# Altium footprint library semicon-th.PcbLib: 15 footprints
Each footprint in its own frame and in the unit in brackets; x right, y up, seen from the top. Pads: shape width x height; smd on the part's side, far side on the other; paste and mask are expansions set on the pad; w line width, h text height; cw(c..) or ccw(c..) is an arc to the next point about the centre after c.
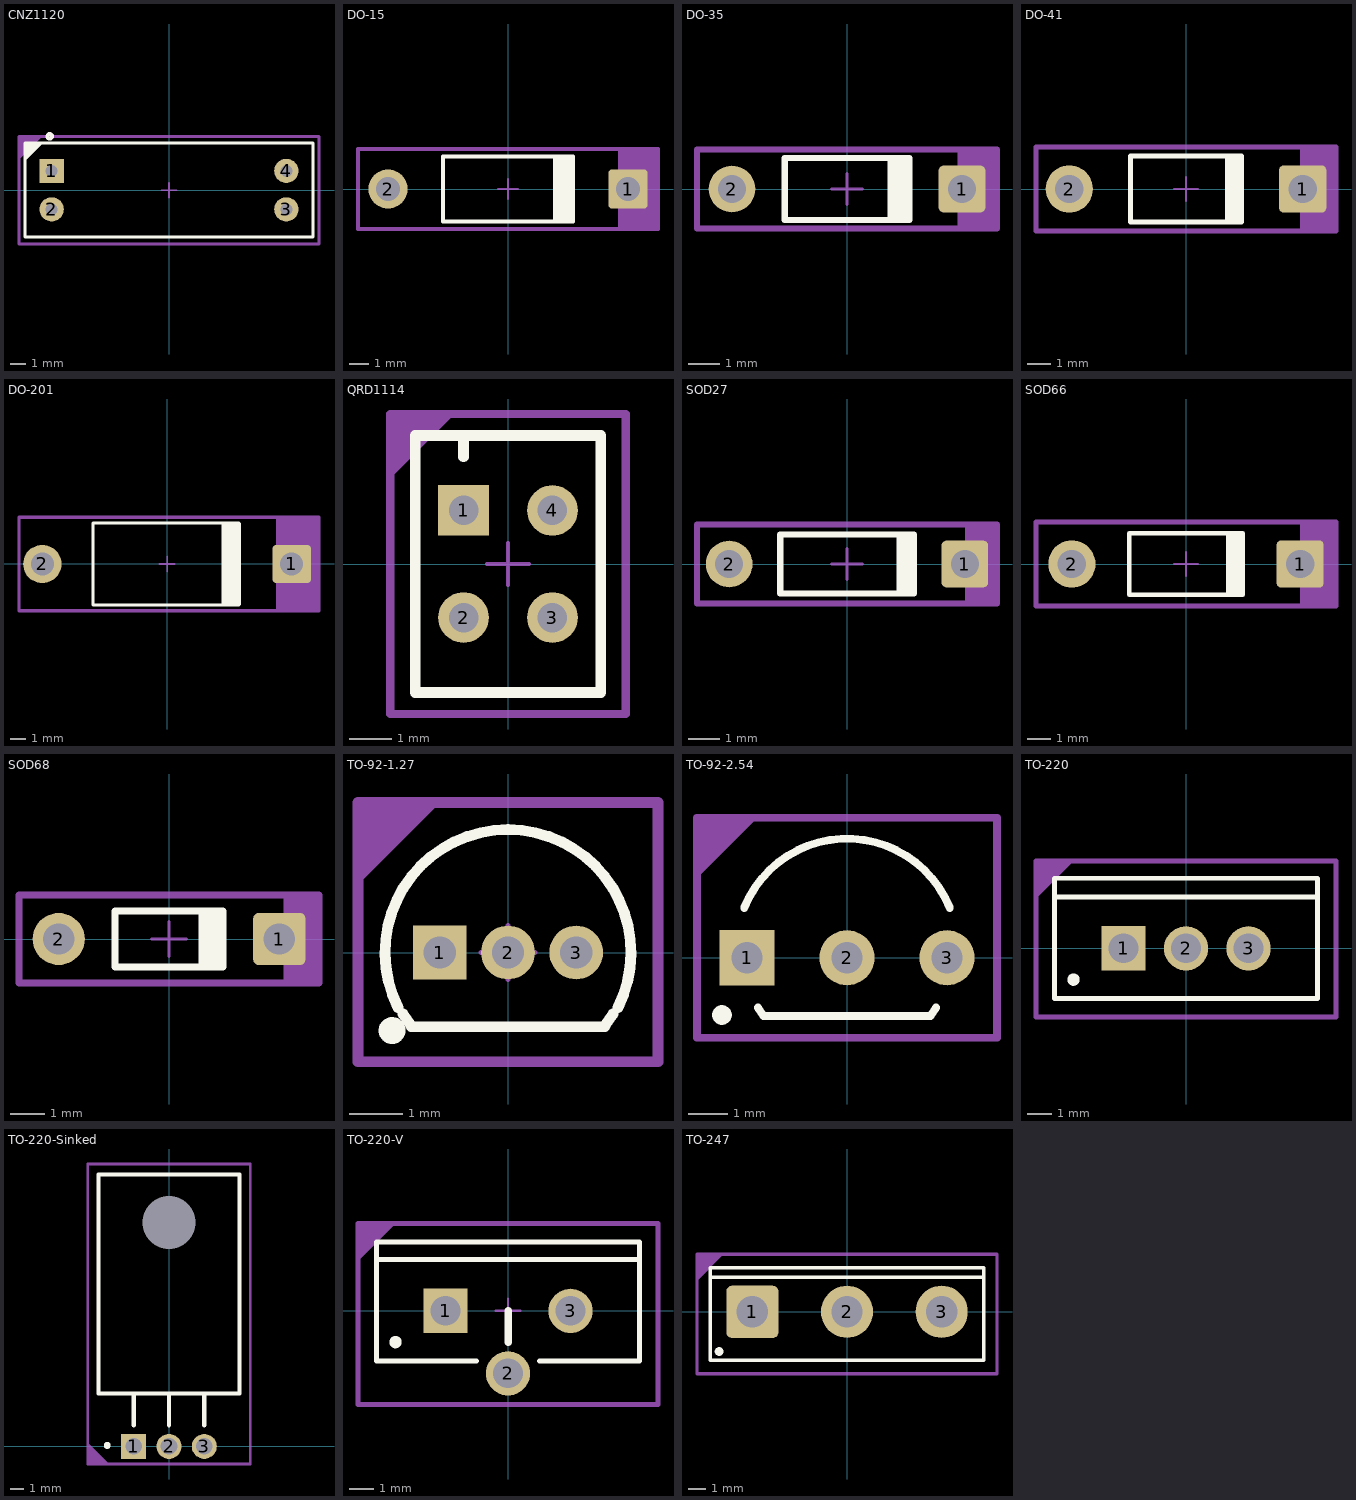
[diagram p0: the footprints below, top view; thin cyan lines are the x and y axes]

## CNZ1120 [mm]
pads (4):
  rect 1.6x1.6 hole 0.8: 1(-7.75,1.27)
  round 1.6 hole 0.8: 2(-7.75,-1.27) 3(7.75,-1.27) 4(7.75,1.27)
Top Overlay:
  circle w0.25: c-7.874,3.556 r0.15
  region: -9.398,3.048 -9.398,2.032 -8.382,3.048
  lines w0.203: -9.5,-3.1 9.5,-3.1 9.5,3.1 -9.5,3.1 -9.5,-3.1
Mechanical 13:
  region: -9.906,3.556 -9.906,2.032 -8.382,3.556
  lines w0.2: -9.906,-3.556 9.906,-3.556 9.906,3.556 -9.906,3.556 -9.906,-3.556
  text ".Designator" at -3.302,-1.016 h2
Mechanical 15:
  lines w0.05: -9.906,-3.556 -9.906,3.556 9.906,3.556 9.906,-3.556 -9.906,-3.556
  lines w0.1: -0.5,0 0.5,0 ; 0,-0.5 0,0.5
3D body: height 14, standoff 0.1, extent 5.08,-3.048 9.398,3.048
3D body: height 3, standoff 0.1, extent -5.08,-3.048 5.08,3.048
3D body: height 14, standoff 0.1, extent -9.398,-3.048 -5.08,3.048

## DO-15 [mm] "Diode, Axial; Body 4.7 x 2.7 mm (LxDia. max), Lead Dia. 0.86 mm (max)"
height 2.8
pads (2):
  rrect20% 2x2 hole 1.2: 1(6.096,0)
  round 2 hole 1.2: 2(-6.096,0)
Top Overlay:
  rectangle: 2.286,-1.651 3.4,1.651
  lines w0.2: 3.302,-1.651 -3.302,-1.651 -3.302,1.651 3.302,1.651
Mechanical 13:
  region: 7.62,2.032 5.588,2.032 5.588,-2.032 7.62,-2.032
  lines w0.2: -7.62,-2.032 -7.62,2.032 7.62,2.032 7.62,-2.032 -7.62,-2.032
  text ".Designator" at -3.302,-1.016 h2
Mechanical 15:
  lines w0.05: -7.62,-2.032 7.62,-2.032 7.62,2.032 -7.62,2.032 -7.62,-2.032
  lines w0.1: -0.5,0 0.5,0 ; 0,-0.5 0,0.5

## DO-35 [mm] "Diode, Axial; Body 4 x 2 mm (LxDia. max), Lead Dia. 0.6 mm (max)"
height 2
pads (2):
  rrect20% 1.5x1.5 hole 0.9: 1(3.7,0)
  round 1.5 hole 0.9: 2(-3.7,0)
Top Overlay:
  rectangle: 1.3,-1 2.1,1
  lines w0.2: 2,-1 -2,-1 -2,1 2,1
Mechanical 13:
  region: 3.556,1.27 4.826,1.27 4.826,-1.27 3.556,-1.27
  lines w0.2: -4.826,-1.27 -4.826,1.27 4.826,1.27 4.826,-1.27 -4.826,-1.27
  text ".Designator" at -3.048,-0.762 h1.6
Mechanical 15:
  lines w0.05: -4.826,-1.27 4.826,-1.27 4.826,1.27 -4.826,1.27 -4.826,-1.27
  lines w0.1: -0.5,0 0.5,0 ; 0,-0.5 0,0.5

## DO-41 [mm] "Diode, Axial; Body 4.7 x 2.7 mm (LxDia. max), Lead Dia. 0.86 mm (max)"
height 2.8
pads (2):
  rrect20% 2x2 hole 1.2: 1(4.94,0)
  round 2 hole 1.2: 2(-4.94,0)
Top Overlay:
  rectangle: 1.65,-1.4 2.45,1.4
  lines w0.2: 2.35,-1.4 -2.35,-1.4 -2.35,1.4 2.35,1.4
Mechanical 13:
  region: 6.35,1.778 4.826,1.778 4.826,-1.778 6.35,-1.778
  lines w0.2: -6.35,-1.778 -6.35,1.778 6.35,1.778 6.35,-1.778 -6.35,-1.778
  text ".Designator" at -3.302,-1.016 h2
Mechanical 15:
  lines w0.05: -6.35,-1.778 6.35,-1.778 6.35,1.778 -6.35,1.778 -6.35,-1.778
  lines w0.1: -0.5,0 0.5,0 ; 0,-0.5 0,0.5

## DO-201 [mm] "Diode, Axial; Body 4.7 x 2.7 mm (LxDia. max), Lead Dia. 0.86 mm (max)"
height 2.8
pads (2):
  rrect20% 2.5x2.5 hole 1.5: 1(8.128,0)
  round 2.5 hole 1.5: 2(-8.128,0)
Top Overlay:
  rectangle: 3.556,-2.667 4.826,2.667
  lines w0.2: 4.699,-2.667 -4.826,-2.667 -4.826,2.667 4.699,2.667
Mechanical 13:
  region: 9.906,3.048 7.112,3.048 7.112,-3.048 9.906,-3.048
  lines w0.2: -9.652,-3.048 -9.652,3.048 9.906,3.048 9.906,-3.048 -9.652,-3.048
  text ".Designator" at -3.302,-1.016 h2
Mechanical 15:
  lines w0.05: -9.652,-3.048 9.906,-3.048 9.906,3.048 -9.652,3.048 -9.652,-3.048
  lines w0.1: -0.5,0 0.5,0 ; 0,-0.5 0,0.5

## QRD1114 [mm]
pads (4):
  rect 1.2x1.2 hole 0.7: 1(-1.054,1.27)
  round 1.2 hole 0.7: 2(-1.054,-1.27) 3(1.054,-1.27) 4(1.054,1.27)
Top Overlay:
  lines w0.254: -1.054,2.54 -1.054,3.048 ; -2.197,-3.048 2.197,-3.048 2.197,3.048 -2.197,3.048 -2.197,-3.048
Mechanical 13:
  region: -2.794,3.556 -2.794,2.032 -1.27,3.556
  lines w0.2: -2.794,-3.556 -2.794,3.556 2.794,3.556 2.794,-3.556 -2.794,-3.556
  text ".Designator" at -1.778,-0.508 h1
Mechanical 15:
  lines w0.05: -2.794,-3.556 2.794,-3.556 2.794,3.556 -2.794,3.556 -2.794,-3.556
  lines w0.1: -0.5,0 0.5,0 ; 0,-0.5 0,0.5

## SOD27 [mm] "Diode, Axial; Body 4.3 x 1.9 mm (LxDia. max), Lead Dia. 0.56 mm (max)"
height 1.9
pads (2):
  rrect20% 1.5x1.5 hole 0.9: 1(3.79,0)
  round 1.5 hole 0.9: 2(-3.79,0)
Top Overlay:
  rectangle: 1.6,-0.95 2.25,0.95
  lines w0.2: 2.15,-0.95 -2.15,-0.95 -2.15,0.95 2.15,0.95
Mechanical 13:
  region: 4.826,1.27 3.81,1.27 3.81,-1.27 4.826,-1.27
  lines w0.2: -4.826,-1.27 4.826,-1.27 4.826,1.27 -4.826,1.27 -4.826,-1.27
  text ".Designator" at -2.794,-0.762 h1.6
Mechanical 15:
  lines w0.05: -4.826,-1.27 -4.826,1.27 4.826,1.27 4.826,-1.27 -4.826,-1.27
  lines w0.1: -0.5,0 0.5,0 ; 0,-0.5 0,0.5

## SOD66 [mm] "Diode, Axial; Body 4.8 x 2.6 mm (LxDia. max), Lead Dia. 0.81 mm (max)"
height 2.6
pads (2):
  rrect20% 2x2 hole 1.2: 1(4.83,0)
  round 2 hole 1.2: 2(-4.83,0)
Top Overlay:
  rectangle: 1.7,-1.3 2.5,1.3
  lines w0.2: 2.4,-1.3 -2.4,-1.3 -2.4,1.3 2.4,1.3
Mechanical 13:
  region: 6.35,1.778 4.826,1.778 4.826,-1.778 6.35,-1.778
  lines w0.2: -6.35,-1.778 -6.35,1.778 6.35,1.778 6.35,-1.778 -6.35,-1.778
  text ".Designator" at -3.302,-1.016 h2
Mechanical 15:
  lines w0.05: -6.35,-1.778 6.35,-1.778 6.35,1.778 -6.35,1.778 -6.35,-1.778
  lines w0.1: -0.5,0 0.5,0 ; 0,-0.5 0,0.5

## SOD68 [mm] "Diode, Axial; Body 3 x 1.6 mm (LxDia. max), Lead Dia. 0.55 mm (max)"
height 1.6
pads (2):
  rrect20% 1.5x1.5 hole 0.9: 1(3.175,0)
  round 1.5 hole 0.9: 2(-3.175,0)
Top Overlay:
  rectangle: 0.85,-0.8 1.65,0.8
  lines w0.2: 1.55,-0.8 -1.55,-0.8 -1.55,0.8 1.55,0.8
Mechanical 13:
  region: 4.318,1.27 3.302,1.27 3.302,-1.27 4.318,-1.27
  lines w0.2: -4.318,-1.27 4.318,-1.27 4.318,1.27 -4.318,1.27 -4.318,-1.27
  text ".Designator" at -3.83,-0.9 h1.8
Mechanical 15:
  lines w0.05: -4.318,-1.27 -4.318,1.27 4.318,1.27 4.318,-1.27 -4.318,-1.27
  lines w0.1: -0.5,0 0.5,0 ; 0,-0.5 0,0.5

## TO-92-1.27 [mm]
pads (3):
  rect 1x1 hole 0.6: 1(-1.27,0)
  round 1 hole 0.6: 2(0,0) 3(1.27,0)
Top Overlay:
  circle w0.25: c-2.16,-1.454 r0.125
  lines w0.2: -2.048,-1.024 cw(c0,0) 2.048,-1.024 ; -1.956,-1.143 -1.81,-1.362 ; -1.8,-1.38 1.8,-1.38 ; 1.81,-1.362 1.956,-1.143
Mechanical 13:
  region: -2.794,2.794 -2.794,1.27 -1.27,2.794
  lines w0.2: -2.794,-2.032 -2.794,2.794 2.794,2.794 2.794,-2.032 -2.794,-2.032
  text ".Designator" at -2.23,-0.62 h1.3
Mechanical 15:
  lines w0.05: -2.794,-2.032 2.794,-2.032 2.794,2.794 -2.794,2.794 -2.794,-2.032
  lines w0.1: -0.5,0 0.5,0 ; 0,-0.5 0,0.5

## TO-92-2.54 [mm]
pads (3):
  rect 1.4x1.4 hole 0.8: 1(-2.54,0)
  round 1.4 hole 0.8: 2(0,0) 3(2.54,0)
Top Overlay:
  circle w0.25: c-3.176,-1.454 r0.125
  lines w0.2: -2.61,1.266 cw(c0,0.212) 2.61,1.266 ; -2.263,-1.263 -2.117,-1.482 2.117,-1.482 2.263,-1.263
Mechanical 13:
  region: -3.81,3.556 -3.81,2.032 -2.286,3.556
  lines w0.2: -3.81,-2.032 3.81,-2.032 3.81,3.556 -3.81,3.556 -3.81,-2.032
  text ".Designator" at -2.67,-0.7 h1.6
Mechanical 15:
  lines w0.05: -3.81,-2.032 -3.81,3.556 3.81,3.556 3.81,-2.032 -3.81,-2.032
  lines w0.1: -0.5,0 0.5,0 ; 0,-0.5 0,0.5

## TO-220 [mm] "TO, Thru-Hole, Vertical, Heatsink Mounted; 3 In-Line Leads; Pitch 2.54 mm"
height 22.9
pads (3):
  rect 1.8x1.8 hole 1.2: 1(-2.54,0)
  round 1.8 hole 1.2: 2(0,0) 3(2.54,0)
Top Overlay:
  circle w0.25: c-4.572,-1.27 r0.125
  lines w0.2: -5.35,2.096 5.35,2.096 ; -5.35,-2.032 5.35,-2.032 5.35,2.85 -5.35,2.85 -5.35,-2.032
Mechanical 13:
  region: -6.096,3.556 -6.096,2.032 -4.572,3.556
  lines w0.2: -6.096,-2.794 6.096,-2.794 6.096,3.556 -6.096,3.556 -6.096,-2.794
  text ".Designator" at -3.35,-0.96 h2
Mechanical 15:
  lines w0.05: -6.096,-2.794 -6.096,3.556 6.096,3.556 6.096,-2.794 -6.096,-2.794
  lines w0.1: -0.5,0 0.5,0 -0.5,0 ; 0,-0.5 0,0.5 0,-0.5
3D body "TO-220AB.STEP": height 20.86, standoff -3, extent -5.335,-2.163 5.335,2.667

## TO-220-Sinked [mm]
pads (4):
  round 0 hole 3.81: 0(0,16.1)
  rect 1.8x1.8 hole 1.2: 1(-2.54,0)
  round 1.8 hole 1.2: 2(0,0) 3(2.54,0)
Top Overlay:
  circle w0.25: c-4.446,0.07 r0.125
  lines w0.305: -2.54,1.524 -2.54,3.81 ; 0,1.524 0,3.81 ; 2.54,1.524 2.54,3.81 ; -5.08,3.81 -5.08,19.558 5.08,19.558 5.08,3.81 -5.08,3.81
Mechanical 13:
  region: -5.842,-1.27 -4.318,-1.27 -5.842,0.254
  lines w0.2: -5.842,-1.27 -5.842,20.32 5.842,20.32 5.842,-1.27 -5.842,-1.27
  text ".Designator" at -3.44,9.01 h2
Mechanical 15:
  lines w0.05: -5.842,-1.27 5.842,-1.27 5.842,20.32 -5.842,20.32 -5.842,-1.27
  lines w0.1: -0.5,0 0.5,0 ; 0,-0.5 0,0.5
3D body "TO-220-laid.STEP": height 4.2, standoff -3, extent -5.08,-0.22 5.08,19.27

## TO-220-V [mm] "TO, Thru-Hole, Vertical, Heatsink Mounted; 3 In-Line Leads; Pitch 2.54 mm"
height 22.9
pads (3):
  rect 1.8x1.8 hole 1.2: 1(-2.54,0)
  round 1.8 hole 1.2: 2(0,-2.54) 3(2.54,0)
Top Overlay:
  circle w0.25: c-4.572,-1.27 r0.125
  lines w0.2: -5.35,2.096 5.35,2.096 ; -1.286,-2.032 -5.35,-2.032 -5.35,2.794 5.35,2.794 5.35,-2.032 1.286,-2.032
  lines w0.305: 0,-1.27 0,0
Mechanical 13:
  region: -6.096,3.556 -6.096,2.032 -4.572,3.556
  lines w0.2: -6.096,-3.81 6.096,-3.81 6.096,3.556 -6.096,3.556 -6.096,-3.81
  text ".Designator" at -3.35,-0.96 h2
Mechanical 15:
  lines w0.05: -6.096,-3.81 -6.096,3.556 6.096,3.556 6.096,-3.81 -6.096,-3.81
  lines w0.1: -0.5,0 0.5,0 -0.5,0 ; 0,-0.5 0,0.5 0,-0.5
3D body "TO-220AB-V.STEP": height 20.86, standoff -3, extent -5.335,-2.803 5.335,2.667

## TO-247 [mm] "SIP; 3 Leads; Body 20.3 x 15.6 x 5 mm (typ); Pitch 5.45 mm"
height 23.9
pads (3):
  rrect20% 3x3 hole 1.8: 1(-5.45,0)
  round 3 hole 1.8: 2(0,0) 3(5.45,0)
Top Overlay:
  circle w0.25: c-7.366,-2.286 r0.125
  lines w0.2: -7.8,2 7.8,2 ; -7.874,-2.794 -7.874,2.54 7.874,2.54 7.874,-2.794 -7.874,-2.794
Mechanical 13:
  region: -8.636,3.302 -8.636,1.778 -7.112,3.302
  lines w0.2: -8.636,-3.556 8.636,-3.556 8.636,3.302 -8.636,3.302 -8.636,-3.556
  text ".Designator" at -3.36,-0.96 h2
Mechanical 15:
  lines w0.05: -8.636,-3.556 -8.636,3.302 8.636,3.302 8.636,-3.556 -8.636,-3.556
  lines w0.1: -0.5,0 0.5,0 ; 0,-0.5 0,0.5
3D body "TO247-3.STEP": height 25.95, standoff -15.18, extent -7.95,-2.794 7.95,2.306